# Altium schematic symbol library Airpurity.SchLib: 36 symbols
Pins are listed as number, name and electrical type; pins without a type are passive.

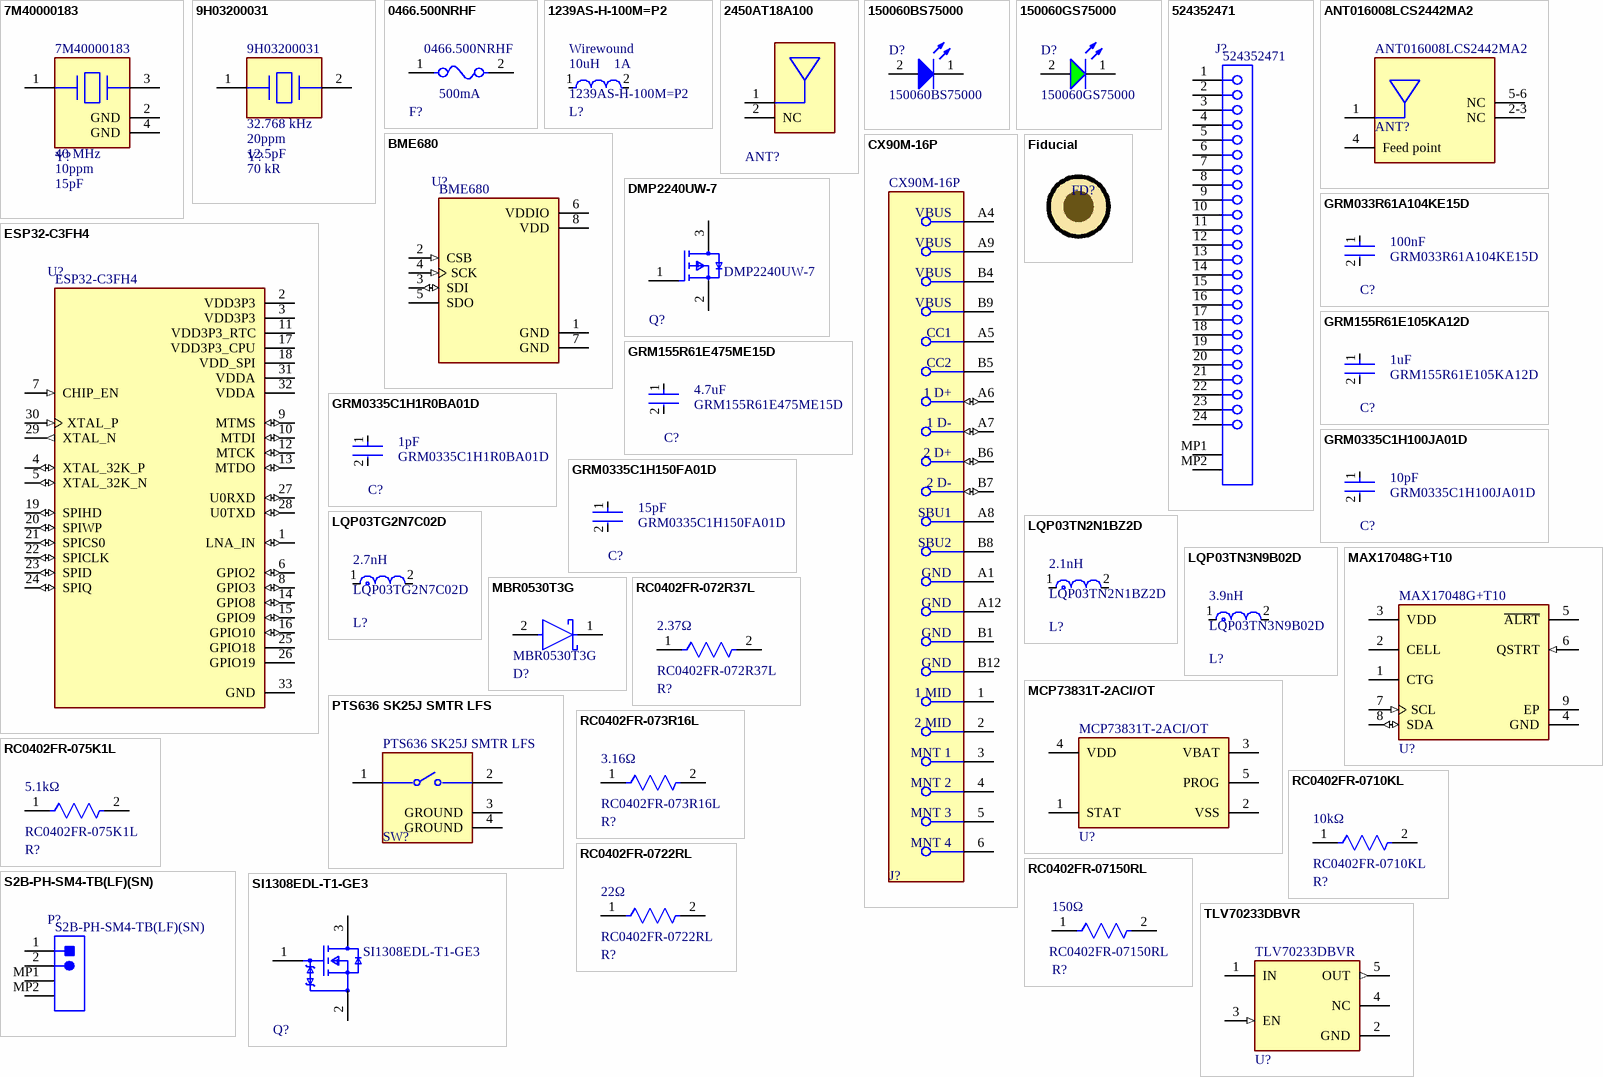
[diagram p0: symbols 7M40000183 to TLV70233DBVR]

## 7M40000183
designator Y?  Frequency Tolerance: 10ppm  Frequency: 40 MHz  Manufacturer Part Number: 7M40000183  Load Capacitance: 15pF  (hidden comment: *)
Crystal 40 MHz; LCSC Part Number: C331598
footprint ABM8
pins: 1, 2 GND, 3, 4 GND

## 9H03200031
designator Y?  Frequency Tolerance: 20ppm  Equivalent Series Resistance: 70 kR  Frequency: 32.768 kHz  Manufacturer Part Number: 9H03200031  Load Capacitance: 12.5pF  (hidden comment: *)
Crystal 32.768 kHz; LCSC Part Number: C90944
footprint ABS10
pins: 1, 2

## 0466.500NRHF
designator F?  Manufacturer Part Number: 0466.500NRHF  Current: 500mA  (hidden comment: *)
Fuse 500mA; LCSC Part Number: C151133
footprint 0466-MFG
pins: 1, 2

## 1239AS-H-100M=P2
designator L?  Current Rating: 1A  Resistor Type: Wirewound  Inductance: 10uH  Manufacturer Part Number: 1239AS-H-100M=P2  (hidden comment: *)
Inductor 10uH; LCSC Part Number: C237599
footprint DFE252012C-MFG
pins: 1, 2

## 2450AT18A100
designator ANT?  (value not drawn)
Chip Antenna 0.5dBi 2.4GHz 2W 1206; Manufacturer Part Number: 2450AT18A100E; Impedance: 50Ω; LCSC Part Number: C89334
footprint FP-2450AT18A0100001E-MFG
pins: 1 FEED, 2 NC

## 150060BS75000
designator D?  Manufacturer Part Number: 150060BS75000  (hidden comment: *)
LED Blue 3.2V 0603; Forward Voltage: 3.2V; Color: Blue; LCSC Part Number: C5197644
footprint 0603_150060xx75000 (SMD Mono-color Chip LED, body 1.6x0.8mm)
pins: 1 K, 2 A

## 150060GS75000
designator D?  Manufacturer Part Number: 150060GS75000  (hidden comment: *)
LED Emerald 3.2V 0603; Color: Green; Forward Voltage: 3.2V; LCSC Part Number: C5252984
footprint 0603_150060xx75000 (SMD Mono-color Chip LED, body 1.6x0.8mm)
pins: 1 K, 2 A

## 524352471
designator J?  Manufacturer Part Number: 524352471  (hidden comment: *)
FPC Connector, 2.0 mm, 0.5 mm, Right Angle; LCSC Part Number: C122394
footprint 52435-2471 (FPC Connector, 24-Leads, Right Angle, Pitch 0.5 mm, Mated Height 2.0 mm, SMT)
pins: 1, 2, 3, 4, 5, 6, 7, 8, 9, 10, 11, 12, 13, 14, 15, 16, 17, 18, 19, 20, 21, 22, 23, 24, MP1, MP2

## ANT016008LCS2442MA2
designator ANT?  Manufacturer Part Number: ANT016008LCS2442MA2  (hidden comment: *)
Chip Antenna 2.5dBi 2.4GHz 0603; Impedance: 50Ω; LCSC Part Number: C209892
footprint ANT016008LCS2442MA2
pins: 1 Radiator electrode, 2-3 NC, 4 Feed point, 5-6 NC

## BME680
designator U?  Manufacturer Part Number: BME680  (hidden comment: *)
Gas, Humidity, Pressure, Temperature Sensor I²C; LCSC Part Number: C125972
footprint PSON80P300X300X100-8N
pins: 1 GND, 2 CSB (in), 3 SDI (io), 4 SCK (in), 5 SDO, 6 VDDIO, 7 GND, 8 VDD

## CX90M-16P
designator J?  Manufacturer Part Number: CX90M-16P  (hidden comment: *)
Connector USB2.0 TYPE-C 16POS; LCSC Part Number: C2889324
footprint CX90M-16P-MFG
pins: 1 1 MID, 2 2 MID, 3 MNT 1, 4 MNT 2, 5 MNT 3, 6 MNT 4, A1 GND, A4 VBUS (power), A5 CC1, A6 1 D+ (io), A7 1 D- (io), A8 SBU1, A9 VBUS (power), A12 GND, B1 GND, B4 VBUS (power), B5 CC2, B6 2 D+ (io), B7 2 D- (io), B8 SBU2, B9 VBUS (power), B12 GND

## DMP2240UW-7
designator Q?  Manufacturer Part Number: DMP2240UW-7  (hidden comment: *)
MOSFET P-Channel; LCSC Part Number: C459548
footprint SOT323-MFG
pins: 1 G, 2 S, 3 D

## ESP32-C3FH4
designator U?  Manufacturer Part Number: ESP32-C3FH4  (hidden comment: *)
Bluetooth, WiFi 802.11b/g/n, Bluetooth v5.0 Transceiver Module 2.402GHz ~ 2.48GHz Antenna Not Included Surface Mount; LCSC Part Number: C2858491
footprint QFN50P500X500X90-33N
pins: 1 LNA_IN (io), 2 VDD3P3, 3 VDD3P3, 4 XTAL_32K_P (io), 5 XTAL_32K_N (io), 6 GPIO2 (io), 7 CHIP_EN (in), 8 GPIO3 (io), 9 MTMS (io), 10 MTDI (io), 11 VDD3P3_RTC, 12 MTCK (io), 13 MTDO (io), 14 GPIO8 (io), 15 GPIO9 (io), 16 GPIO10 (io), 17 VDD3P3_CPU, 18 VDD_SPI, 19 SPIHD (io), 20 SPIWP (io), 21 SPICS0 (io), 22 SPICLK (io), 23 SPID (io), 24 SPIQ (io), 25 GPIO18, 26 GPIO19, 27 U0RXD (io), 28 U0TXD (io), 29 XTAL_N (out), 30 XTAL_P (in), 31 VDDA, 32 VDDA, 33 GND (power)

## Fiducial
designator FD?  (value not drawn)
Fiducial
footprint FIDUCIAL-1MM (1MM FIDUCAL MARKER)

## GRM033R61A104KE15D
designator C?  Manufacturer Part Number: GRM033R61A104KE15D  Capacitance: 100nF  (hidden comment: *)
100nF X5R 0201 Multilayer Ceramic Capacitor; LCSC Part Number: C76934
footprint GRM033-0201-MFG
pins: 1, 2

## GRM155R61E105KA12D
designator C?  Manufacturer Part Number: GRM155R61E105KA12D  Capacitance: 1uF  (hidden comment: *)
1uF X5R 0402 Multilayer Ceramic Capacitor; LCSC Part Number: C77009
footprint GRM155-0402-MFG
pins: 1, 2

## GRM155R61E475ME15D
designator C?  Manufacturer Part Number: GRM155R61E475ME15D  Capacitance: 4.7uF  (hidden comment: *)
4.7uF X5R 0402 Multilayer Ceramic Capacitor; LCSC Part Number: C2858031
footprint GRM155-0402-MFG
pins: 1, 2

## GRM0335C1H1R0BA01D
designator C?  Manufacturer Part Number: GRM0335C1H1R0BA01D  Capacitance: 1pF  (hidden comment: *)
1pF C0G 0201 Multilayer Ceramic Capacitor; LCSC Part Number: C85893
footprint GRM033-0201-MFG
pins: 1, 2

## GRM0335C1H100JA01D
designator C?  Manufacturer Part Number: GRM0335C1H100JA01D  Capacitance: 10pF  (hidden comment: *)
10pF C0G 0201 Multilayer Ceramic Capacitor; LCSC Part Number: C76921
footprint GRM033-0201-MFG
pins: 1, 2

## GRM0335C1H150FA01D
designator C?  Manufacturer Part Number: GRM0335C1H150FA01D  Capacitance: 15pF  (hidden comment: *)
15pF C0G 0201 Multilayer Ceramic Capacitor; LCSC Part Number: C237567
footprint GRM033-0201-MFG
pins: 1, 2

## LQP03TG2N7C02D
designator L?  Inductance: 2.7nH  Manufacturer Part Number: LQP03TG2N7C02D  (hidden comment: *)
Inductor 2.7nH; Current Rating: 450mA; LCSC Part Number: C337946
footprint LQP03TG-MFG
pins: 1, 2

## LQP03TN2N1BZ2D
designator L?  Inductance: 2.1nH  Manufacturer Part Number: LQP03TN2N1BZ2D  (hidden comment: *)
Inductor 2.1nH; Current Rating: 600mA; LCSC Part Number: C560038
footprint LQP03TG-MFG
pins: 1, 2

## LQP03TN3N9B02D
designator L?  Inductance: 3.9nH  Manufacturer Part Number: LQP03TN3N9B02D  (hidden comment: *)
Inductor 3.9nH; Current Rating: 400mA; LCSC Part Number: C77115
footprint LQP03TG-MFG
pins: 1, 2

## MAX17048G+T10
designator U?  Manufacturer Part Number: MAX17048G+T10  (hidden comment: *)
Fuel Gauge LI-ION; LCSC Part Number: C2682616
footprint T822-3-MFG
pins: 1 CTG (power), 2 CELL (power), 3 VDD (power), 4 GND, 5 ~{ALRT} (oc), 6 QSTRT (in), 7 SCL (in), 8 SDA (io), 9 EP

## MBR0530T3G
designator D?  Manufacturer Part Number: MBR0530T3G  (hidden comment: *)
Schottky Barrier Diodes; LCSC Part Number: C236079
footprint 425-04-MFG
pins: 1 C, 2 A

## MCP73831T-2ACI/OT
designator U?  Manufacturer Part Number: MCP73831T-2ACI/OT  (hidden comment: *)
IC Controller LI-ION 4.2V; LCSC Part Number: C424093
footprint SOT23-5LD-PL-1-MFG
pins: 1 STAT, 2 VSS, 3 VBAT (power), 4 VDD (power), 5 PROG

## PTS636 SK25J SMTR LFS
designator SW?  Manufacturer Part Number: PTS636 SK25J SMTR LFS  (hidden comment: *)
Tactile Switch SPST; LCSC Part Number: C2800965
footprint PTS636_SKG25_SMTR_LFS-MFG
pins: 1, 2, 3 GROUND, 4 GROUND

## RC0402FR-072R37L
designator R?  Manufacturer Part Number: RC0402FR-072R37L  Resistance: 2.37Ω  (hidden comment: *)
2.37Ω 0402 Chip Resistor; LCSC Part Number: C477648
footprint RC0402-MFG
pins: 1, 2

## RC0402FR-073R16L
designator R?  Manufacturer Part Number: RC0402FR-073R16L  Resistance: 3.16Ω  (hidden comment: *)
3.16Ω 0402 Chip Resistor; LCSC Part Number: C477688
footprint RC0402-MFG
pins: 1, 2

## RC0402FR-075K1L
designator R?  Resistance: 5.1kΩ  Manufacturer Part Number: RC0402FR-075K1L  (hidden comment: *)
5.1kΩ 0402 Chip Resistor; LCSC Part Number: C105872
footprint RC0402-MFG
pins: 1, 2

## RC0402FR-0710KL
designator R?  Manufacturer Part Number: RC0402FR-0710KL  Resistance: 10kΩ  (hidden comment: *)
10kΩ 0402 Chip Resistor; LCSC Part Number: C60490
footprint RC0402-MFG
pins: 1, 2

## RC0402FR-0722RL
designator R?  Resistance: 22Ω  Manufacturer Part Number: RC0402FR-0722RL  (hidden comment: *)
22Ω 0402 Chip Resistor; LCSC Part Number: C114765
footprint RC0402-MFG
pins: 1, 2

## RC0402FR-07150RL
designator R?  Manufacturer Part Number: RC0402FR-07150RL  Resistance: 150Ω  (hidden comment: *)
150Ω 0402 Chip Resistor; LCSC Part Number: C138054
footprint RC0402-MFG
pins: 1, 2

## S2B-PH-SM4-TB(LF)(SN)
designator P?  Manufacturer Part Number: S2B-PH-SM4-TB(LF)(SN)  (hidden comment: *)
Male Header, Pitch 2 mm, 1 x 2 Position; LCSC Part Number: C295747
footprint JST- S2B-PH-SM4-TB(LF)(SN)
pins: 1, 2, MP1, MP2

## SI1308EDL-T1-GE3
designator Q?  Manufacturer Part Number: SI1308EDL-T1-GE3  (hidden comment: *)
MOSFET N-Channel; LCSC Part Number: C469327
footprint 5549-MFG
pins: 1 G, 2 S, 3 D

## TLV70233DBVR
designator U?  Manufacturer Part Number: TLV70233DBVR  (hidden comment: *)
LDO Voltage Regulators 300mALow IQLDO Reg; LCSC Part Number: C26833
footprint DBV0005A-MFG
pins: 1 IN (power), 2 GND, 3 EN (in), 4 NC, 5 OUT (out)